# Altium footprint library J 接插件.PcbLib: 458 footprints (part 10 of 29)
Each footprint in its own frame and in the unit in brackets; x right, y up, seen from the top. Pads: shape width x height; smd on the part's side, far side on the other; paste and mask are expansions set on the pad; w line width, h text height; cw(c..) or ccw(c..) is an arc to the next point about the centre after c.
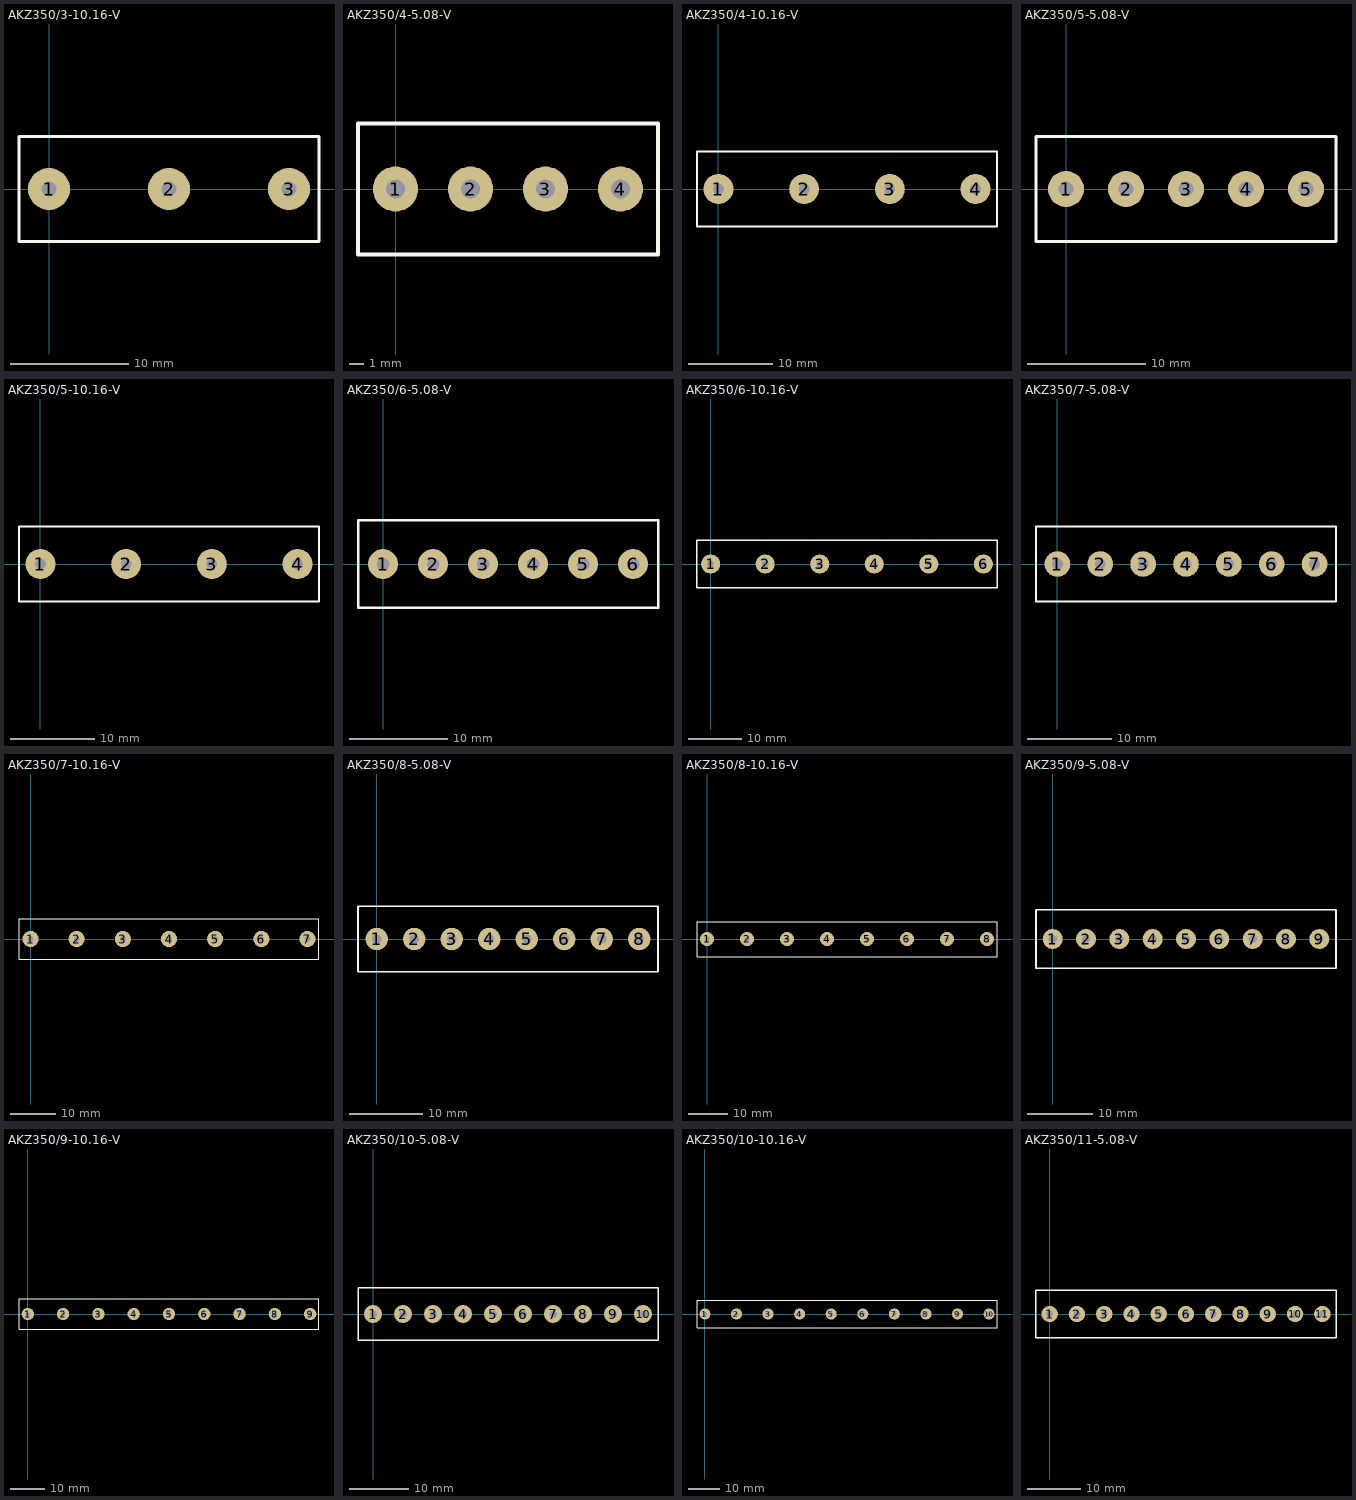
[diagram p9: the footprints below, top view; thin cyan lines are the x and y axes]

## AKZ350/3-10.16-V [mil] "美卡诺 AKZ350 接触件 间距：10.16   3Pin"
height 531.5
pads (3):
  round 140 hole 50: 1(0,0) 2(400,0) 3(800,0)
Top Overlay:
  lines w10: -100,-175 -100,175 900,175 900,-175 -100,-175

## AKZ350/4-5.08-V [mil] "美卡诺 AKZ350 接触件 间距：5.08   4Pin"
height 531.5
pads (4):
  round 120 hole 50: 1(0,0) 2(200,0) 3(400,0) 4(600,0)
Top Overlay:
  lines w10: -100,-175 700,-175 700,175 -100,175 -100,-175

## AKZ350/4-10.16-V [mil] "美卡诺 AKZ350 接触件 间距：10.16   4Pin"
height 531.5
pads (4):
  round 140 hole 50: 1(0,0) 2(400,0) 3(800,0) 4(1200,0)
Top Overlay:
  lines w10: -100,-175 -100,175 1300,175 1300,-175 -100,-175

## AKZ350/5-5.08-V [mil] "美卡诺 AKZ350 接触件 间距：5.08   5Pin"
height 531.5
pads (5):
  round 120 hole 50: 1(0,0) 2(200,0) 3(400,0) 4(600,0) 5(800,0)
Top Overlay:
  lines w10: -100,-175 900,-175 900,175 -100,175 -100,-175

## AKZ350/5-10.16-V [mil] "美卡诺 AKZ350 接触件 间距：10.16   5Pin"
height 531.5
pads (4):
  round 140 hole 50: 1(0,0) 2(400,0) 3(800,0) 4(1200,0)
Top Overlay:
  lines w10: -100,-175 1300,-175 1300,175 -100,175 -100,-175

## AKZ350/6-5.08-V [mil] "美卡诺 AKZ350 接触件 间距：5.08   6Pin"
height 531.5
pads (6):
  round 120 hole 50: 1(0,0) 2(200,0) 3(400,0) 4(600,0) 5(800,0) 6(1000,0)
Top Overlay:
  lines w10: -100,-175 1100,-175 1100,175 -100,175 -100,-175

## AKZ350/6-10.16-V [mil] "美卡诺 AKZ350 接触件 间距：10.16   6Pin"
height 531.5
pads (6):
  round 140 hole 50: 1(0,0) 2(400,0) 3(800,0) 4(1200,0) 5(1600,0) 6(2000,0)
Top Overlay:
  lines w10: -100,-175 2100,-175 2100,175 -100,175 -100,-175

## AKZ350/7-5.08-V [mil] "美卡诺 AKZ350 接触件 间距：5.08   7Pin"
height 531.5
pads (7):
  round 120 hole 50: 1(0,0) 2(200,0) 3(400,0) 4(600,0) 5(800,0) 6(1000,0) 7(1200,0)
Top Overlay:
  lines w10: -100,-175 1300,-175 1300,175 -100,175 -100,-175

## AKZ350/7-10.16-V [mil] "美卡诺 AKZ350 接触件 间距：10.16   7Pin"
height 531.5
pads (7):
  round 140 hole 50: 1(0,0) 2(400,0) 3(800,0) 4(1200,0) 5(1600,0) 6(2000,0) 7(2400,0)
Top Overlay:
  lines w10: -100,-175 -100,175 2500,175 2500,-175 -100,-175

## AKZ350/8-5.08-V [mil] "美卡诺 AKZ350 接触件 间距：5.08   8Pin"
height 531.5
pads (8):
  round 120 hole 50: 1(0,0) 2(200,0) 3(400,0) 4(600,0) 5(800,0) 6(1000,0) 7(1200,0) 8(1400,0)
Top Overlay:
  lines w10: -100,-175 1500,-175 1500,175 -100,175 -100,-175

## AKZ350/8-10.16-V [mil] "美卡诺 AKZ350 接触件 间距：10.16   8Pin"
height 531.5
pads (8):
  round 140 hole 50: 1(0,0) 2(400,0) 3(800,0) 4(1200,0) 5(1600,0) 6(2000,0) 7(2400,0) 8(2800,0)
Top Overlay:
  lines w10: -100,-175 -100,175 2900,175 2900,-175 -100,-175

## AKZ350/9-5.08-V [mil] "美卡诺 AKZ350 接触件 间距：5.08   9Pin"
height 531.5
pads (9):
  round 120 hole 50: 1(0,0) 2(200,0) 3(400,0) 4(600,0) 5(800,0) 6(1000,0) 7(1200,0) 8(1400,0) 9(1600,0)
Top Overlay:
  lines w10: -100,-175 -100,175 1700,175 1700,-175 -100,-175

## AKZ350/9-10.16-V [mil] "美卡诺 AKZ350 接触件 间距：10.16   9Pin"
height 531.5
pads (9):
  round 140 hole 50: 1(0,0) 2(400,0) 3(800,0) 4(1200,0) 5(1600,0) 6(2000,0) 7(2400,0) 8(2800,0) 9(3200,0)
Top Overlay:
  lines w10: -100,-175 3300,-175 3300,175 -100,175 -100,-175

## AKZ350/10-5.08-V [mil] "美卡诺 AKZ350 接触件 间距：5.08   10Pin"
height 531.5
pads (10):
  round 120 hole 50: 1(0,0) 2(200,0) 3(400,0) 4(600,0) 5(800,0) 6(1000,0) 7(1200,0) 8(1400,0) 9(1600,0) 10(1800,0)
Top Overlay:
  lines w10: -100,-175 -100,175 1900,175 1900,-175 -100,-175

## AKZ350/10-10.16-V [mil] "美卡诺 AKZ350 接触件 间距：10.16   10Pin"
height 531.5
pads (10):
  round 140 hole 50: 1(0,0) 2(400,0) 3(800,0) 4(1200,0) 5(1600,0) 6(2000,0) 7(2400,0) 8(2800,0) 9(3200,0) 10(3600,0)
Top Overlay:
  lines w10: -100,-175 3700,-175 3700,175 -100,175 -100,-175

## AKZ350/11-5.08-V [mil] "美卡诺 AKZ350 接触件 间距：5.08   11Pin"
height 531.5
pads (11):
  round 120 hole 50: 1(0,0) 2(200,0) 3(400,0) 4(600,0) 5(800,0) 6(1000,0) 7(1200,0) 8(1400,0) 9(1600,0) 10(1800,0) 11(2000,0)
Top Overlay:
  lines w10: -100,-175 2100,-175 2100,175 -100,175 -100,-175